# Altium footprint library connector.PcbLib: 63 footprints (part 2 of 4)
Each footprint in its own frame and in the unit in brackets; x right, y up, seen from the top. Pads: shape width x height; smd on the part's side, far side on the other; paste and mask are expansions set on the pad; w line width, h text height; cw(c..) or ccw(c..) is an arc to the next point about the centre after c.
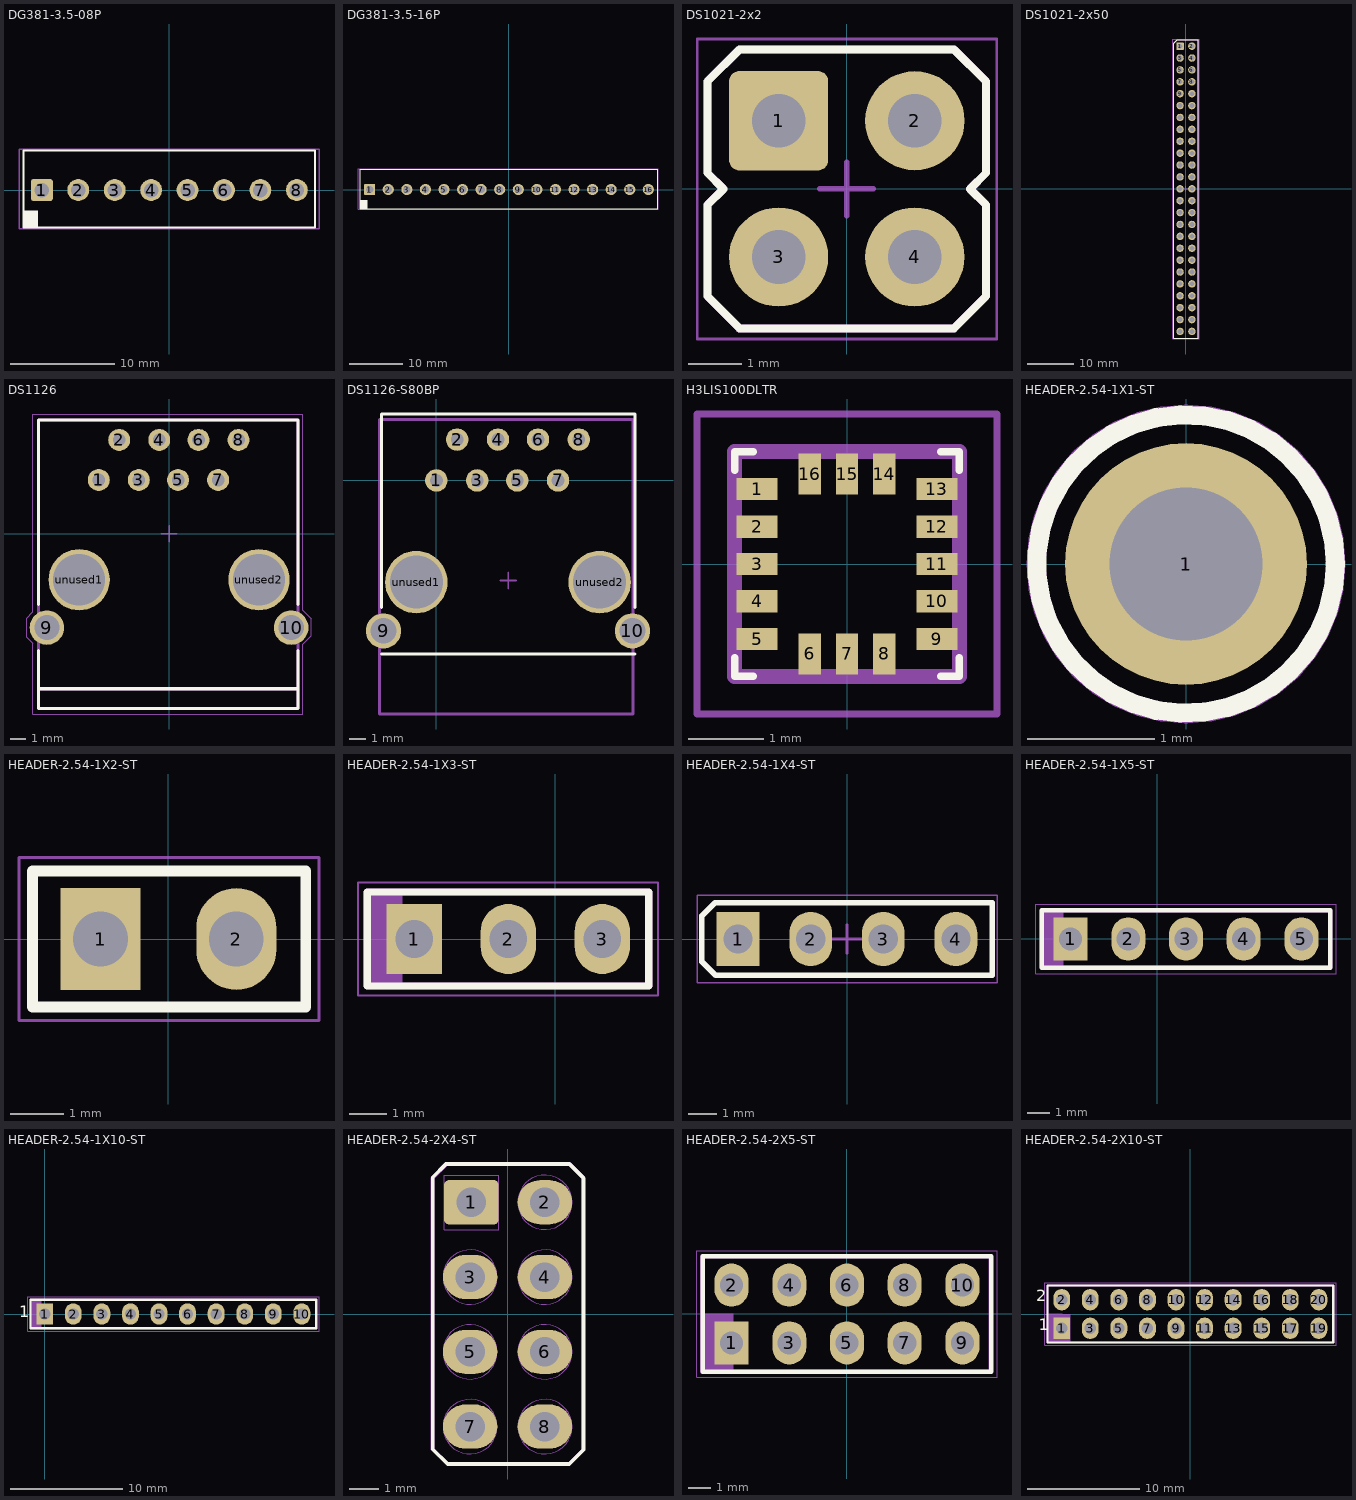
[diagram p1: the footprints below, top view; thin cyan lines are the x and y axes]

## DG381-3.5-08P [mm]
pads (8):
  rrect20% 2.1x2.1 hole 1.4: 1(-12.25,0)
  round 2.1 hole 1.4: 2(-8.75,0) 3(-5.25,0) 4(-1.75,0) 5(1.75,0) 6(5.25,0) 7(8.75,0) 8(12.25,0)
Top Overlay:
  rectangle: -13.982,-3.55 -12.625,-1.95
  lines w0.2: -14,-3.6 14,-3.6 14,3.8 -14,3.8 -14,-3.6
Top Courtyard:
  lines w0.127: -14.45,-3.7 -14.45,3.9 14.381,3.9 14.381,-3.7 -14.45,-3.7
3D body "DG381-3.5-08P-14-00AH.STEP": height 8.7, standoff -3.5, extent -14.504,-3.463 13.996,3.937

## DG381-3.5-16P [mm]
pads (16):
  rrect20% 2.1x2.1 hole 1.4: 1(-26.25,0)
  round 2.1 hole 1.4: 2(-22.75,0) 3(-19.25,0) 4(-15.75,0) 5(-12.25,0) 6(-8.75,0) 7(-5.25,0) 8(-1.75,0) 9(1.75,0) 10(5.25,0) 11(8.75,0) 12(12.25,0) 13(15.75,0) 14(19.25,0) 15(22.75,0) 16(26.25,0)
Top Overlay:
  rectangle: -27.982,-3.55 -26.625,-1.95
  lines w0.2: -28,-3.6 28,-3.6 28,3.8 -28,3.8 -28,-3.6
Top Courtyard:
  lines w0.127: -28.45,-3.7 -28.45,3.9 28.075,3.9 28.075,-3.7 -28.45,-3.7
3D body "DG381-3.5-16P-14-00AH.STEP": height 8.6, standoff -3.6, extent -28.45,-3.525 28.05,3.875

## DS1021-2x2 [mm] "PLD-4 (DS1021-2x2)"
pads (4):
  rrect20% 1.85x1.85 hole 1: 1(-1.27,1.27)
  round 1.85 hole 1: 2(1.27,1.27) 3(-1.27,-1.27) 4(1.27,-1.27)
Top Overlay:
  lines w0.15: -2.6,-2 -2,-2.6 2,-2.6 2.6,-2 2.6,-0.3 2.3,0 2.6,0.3 2.6,2 2,2.6 -2,2.6 -2.6,2 -2.6,0.3 -2.3,0 -2.6,-0.3 -2.6,-2
Top Designator:
  text ".Designator" at -2.999,3.3 h0.6
Top Assembly:
  lines w0.15: -2.6,-2 -2,-2.6 2,-2.6 2.6,-2 2.6,-0.3 2.3,0 2.6,0.3 2.6,2 2,2.6 -2,2.6 -2.6,2 -2.6,0.3 -2.3,0 -2.6,-0.3 -2.6,-2
Bottom Assembly:
  text "1" at -1.46,0.77 h1.5
Top Courtyard:
  lines w0.05: -2.79,-2.8 -2.79,2.794 2.8,2.794 2.8,-2.8 -2.79,-2.8
  lines w0.1: -0.5,0 0.5,0 ; 0,-0.5 0,0.5
3D body "PLD-4.step": height 8.7, standoff -2.9, extent -2.54,-2.54 2.54,2.54

## DS1021-2x50 [mm] "PLD-2x2 (DS1021-2x50)"
pads (50):
  rrect20% 1.6x1.6 hole 1: 1(-1.27,30.48)
  round 1.6 hole 1: 2(1.27,30.48) 3(-1.27,27.94) 4(1.27,27.94) 5(-1.27,25.4) 6(1.27,25.4) 7(-1.27,22.86) 8(1.27,22.86) 9(-1.27,20.32) 10(1.27,20.32) 11(-1.27,17.78) 12(1.27,17.78) 13(-1.27,15.24) 14(1.27,15.24) 15(-1.27,12.7) 16(1.27,12.7) 17(-1.27,10.16) 18(1.27,10.16) 19(-1.27,7.62) 20(1.27,7.62) 21(-1.27,5.08) 22(1.27,5.08) 23(-1.27,2.54) 24(1.27,2.54) 25(-1.27,0) 26(1.27,0) 27(-1.27,-2.54) 28(1.27,-2.54) 29(-1.27,-5.08) 30(1.27,-5.08) 31(-1.27,-7.62) 32(1.27,-7.62) 33(-1.27,-10.16) 34(1.27,-10.16) 35(-1.27,-12.7) 36(1.27,-12.7) 37(-1.27,-15.24) 38(1.27,-15.24) 39(-1.27,-17.78) 40(1.27,-17.78) 41(-1.27,-20.32) 42(1.27,-20.32) 43(-1.27,-22.86) 44(1.27,-22.86) 45(-1.27,-25.4) 46(1.27,-25.4) 47(-1.27,-27.94) 48(1.27,-27.94) 49(-1.27,-30.48) 50(1.27,-30.48)
Top Overlay:
  lines w0.15: -2.6,-31.89 2.6,-31.89 2.6,31.81 -1.9,31.81 -2.6,31.11 -2.6,-31.89
Top Designator:
  text ".Designator" at -2.999,32.51 h0.6
Top Assembly:
  lines w0.15: -2.6,-31.89 2.6,-31.89 2.6,31.81 -1.9,31.81 -2.6,31.11 -2.6,-31.89
Bottom Assembly:
  text "1" at -1.46,29.98 h1.5
Top Courtyard:
  lines w0.05: -2.79,-32.09 -2.79,32.004 2.8,32.004 2.8,-32.09 -2.79,-32.09
  lines w0.1: -0.5,0.01 0.5,0.01 ; 0,-0.49 0,0.51

## DS1126 [mm]
pads (12):
  round 1.4 hole 0.8 paste-2539.97: 1(-4.475,3.425) 2(-3.175,5.975) 3(-1.925,3.425) 4(-0.625,5.975) 5(0.575,3.425) 6(1.875,5.975) 7(3.125,3.425) 8(4.425,5.975)
  round 2.2 hole 1.6 paste-2539.97: 9(-7.775,-5.975) 10(7.775,-5.975)
  round 3.9 hole 3.3 paste-2539.97: unused1(-5.725,-2.925) unused2(5.725,-2.925)
Top Overlay:
  lines w0.2: -8.315,-9.863 8.204,-9.863 ; -8.315,-7.425 -8.315,-11.125 8.204,-11.125 8.207,-11.122 8.207,-7.425 ; -8.31,-4.5 -8.31,7.235 8.207,7.235 8.207,-4.5
Top Designator:
  text ".Designator" at -2.999,8.05 h0.6
Top Assembly:
  lines w0.2: -8.31,-9.863 8.2,-9.863 ; -8.31,-11.129 -8.31,-6.697 -8.31,2.678 -8.31,7.238 8.2,7.238 8.2,-11.129 -8.31,-11.129
Top Courtyard:
  lines w0.05: -9.075,-6.575 -8.675,-6.975 -8.675,-11.475 8.525,-11.475 8.525,-7.043 9.067,-6.501 9.067,-5.406 8.525,-4.864 8.525,7.625 -8.675,7.625 -8.675,3.065 -8.675,-4.975 -9.075,-5.375 -9.075,-6.575
  lines w0.1: -0.5,0 0.5,0 ; 0,-0.5 0,0.5
3D body "432028816.stp": height 12, standoff -3.99, extent -8.364,-11.145 8.214,7.3

## DS1126-S80BP [mm]
pads (12):
  round 1.4 hole 0.8 paste-25.4: 1(0,0) 2(1.3,2.55) 3(2.55,0) 4(3.85,2.55) 5(5.05,0) 6(6.35,2.55) 7(7.6,0) 8(8.9,2.55)
  round 2.2 hole 1.6 paste-25.4: 9(-3.3,-9.4) 10(12.25,-9.4)
  round 3.9 hole 3.3 paste-25.4: unused1(-1.25,-6.35) unused2(10.2,-6.35)
Top Overlay:
  lines w0.2: -3.425,-10.85 8.7,-10.85 ; -3.425,-7.925 -3.425,4.15 12.4,4.15 12.4,-7.925 ; 12.4,-10.85 8.7,-10.85 ; 8.7,-10.85 8.7,-10.85
Top Designator:
  text ".Designator" at 0.751,4.8 h0.6
Top Assembly:
  lines w0.2: -3.544,-14.589 12.281,-14.589 12.281,3.811 -3.544,3.811 -3.544,-0.876 -3.544,-10.251 -3.544,-14.589
Top Courtyard:
  lines w0.1: 4,-6.25 5,-6.25 ; 4.5,-6.75 4.5,-5.75
3D body "432028816.stp": height 12, standoff -3.99, extent -3.889,-14.57 12.689,3.875

## H3LIS100DLTR [mm]
pads (16):
  rect 0.55x0.3 smd: 1(-1.2,1) 2(-1.2,0.5) 3(-1.2,0) 4(-1.2,-0.5) 5(-1.2,-1) 9(1.2,-1) 10(1.2,-0.5) 11(1.2,0) 12(1.2,0.5) 13(1.2,1)
  rect 0.3x0.55 smd: 6(-0.5,-1.2) 7(0,-1.2) 8(0.5,-1.2) 14(0.5,1.2) 15(0,1.2) 16(-0.5,1.2)
Top Overlay:
  lines w0.1: -1.5,-1.25 -1.5,-1.5 -1.25,-1.5 ; -1.5,1.25 -1.5,1.5 -1.25,1.5 ; 1.25,-1.5 1.5,-1.5 1.5,-1.25 ; 1.25,1.5 1.5,1.5 1.5,1.25
Top Assembly:
  lines w0.2: -1.5,-1.5 1.5,-1.5 1.5,1.5 -1.5,1.5 -1.5,-1.5
Top Courtyard:
  lines w0.1: -2,-2 2,-2 2,2 -2,2 -2,-2
3D body "LIS3DH.stp": height 1, standoff 0, extent -1.5,-1.5 1.5,1.5

## HEADER-2.54-1X1-ST [mm]
pads (1):
  round 1.9 hole 1.2: 1(0,0)
Top Overlay:
  circle w0.15: c0,0 r1.174
Bottom Dimensions:
  circle w0.15: c0,0 r1.179
  text ".Designator" at -1.8,1.475 h1
Top Courtyard:
  circle w0.15: c0,0 r1.177

## HEADER-2.54-1X2-ST [mm]
pads (2):
  rect 1.5x1.9 hole 1.02: 1(-1.27,0)
  oval 1.5x1.9 hole 1.02: 2(1.27,0)
Top Overlay:
  lines w0.2: -2.54,-1.27 2.565,-1.27 2.565,1.27 -2.54,1.27 -2.54,-1.27
Top Assembly:
  lines w0.1: -2.54,-1.27 -2.54,1.27 2.565,1.27 2.565,-1.27 -2.54,-1.27
Top Courtyard:
  lines w0.05: -2.794,-1.524 2.815,-1.524 2.815,1.524 -2.794,1.524 -2.794,-1.524
3D body "PLS-2.step": height 8.7, standoff -2.9, extent -2.54,-1.27 2.54,1.27

## HEADER-2.54-1X3-ST [mm]
pads (3):
  rect 1.5x1.9 hole 1.02: 1(-3.81,0)
  oval 1.5x1.9 hole 1.02: 2(-1.27,0) 3(1.27,0)
Top Overlay:
  lines w0.2: -5.08,-1.27 2.525,-1.27 2.525,1.27 -5.08,1.27 -5.08,-1.27
Bottom Dimensions:
  rectangle: -5.08,-1.275 -4.125,1.27
  lines w0.2: -5.08,-1.27 2.525,-1.27 2.525,1.27 -5.08,1.27 -5.08,-1.27
  text ".Designator" at -2.35,1.8 h1
Top Assembly:
  lines w0.1: -5.08,-1.27 2.525,-1.27 2.525,1.27 -5.08,1.27 -5.08,-1.27
Top Courtyard:
  lines w0.05: -5.334,-1.524 2.775,-1.524 2.775,1.524 -5.334,1.524 -5.334,-1.524
3D body "PLS-3.step": height 8.6, standoff -3, extent -5.08,-1.27 2.54,1.27

## HEADER-2.54-1X4-ST [mm]
pads (4):
  rect 1.5x1.9 hole 1.02: 1(-3.81,0)
  oval 1.5x1.9 hole 1.02: 2(-1.27,0) 3(1.27,0) 4(3.81,0)
Top Overlay:
  lines w0.2: -5.08,-0.795 -4.605,-1.27 5.08,-1.27 5.08,1.27 -4.622,1.27 -5.08,0.812 -5.08,-0.795
Top Designator:
  text ".Designator" at -3.124,1.775 h0.6
Top Assembly:
  lines w0.1: -5.08,-0.795 -4.605,-1.27 5.08,-1.27 5.08,1.27 -4.622,1.27 -5.08,0.812 -5.08,-0.795
Top Courtyard:
  lines w0.05: -5.25,-1.524 5.25,-1.524 5.25,1.524 -5.25,1.524 -5.25,-1.524
  lines w0.1: -0.5,0 0.5,0 ; 0,-0.5 0,0.5
3D body "m20-9770442_asm.step": height 8.35, standoff -3.13, extent -5.08,-1.27 5.08,1.27

## HEADER-2.54-1X5-ST [mm]
pads (5):
  rect 1.5x1.9 hole 1.02: 1(-3.81,0)
  oval 1.5x1.9 hole 1.02: 2(-1.27,0) 3(1.27,0) 4(3.81,0) 5(6.35,0)
Top Overlay:
  lines w0.2: -5.08,-1.27 7.62,-1.27 7.62,1.27 -5.08,1.27 -5.08,-1.27
Bottom Dimensions:
  rectangle: -5.08,-1.275 -4.125,1.27
  lines w0.2: -5.08,-1.27 -5.08,1.27 7.62,1.27 7.62,-1.27 -5.08,-1.27
  text ".Designator" at -2.35,1.8 h1
Top Assembly:
  lines w0.1: -5.08,-1.27 -5.08,1.27 7.62,1.27 7.62,-1.27 -5.08,-1.27
Top Courtyard:
  lines w0.05: -5.334,-1.524 7.874,-1.524 7.874,1.524 -5.334,1.524 -5.334,-1.524

## HEADER-2.54-1X10-ST [mm]
pads (10):
  rect 1.5x1.9 hole 1: 1(0,0)
  oval 1.5x1.9 hole 1: 2(2.54,0) 3(5.08,0) 4(7.62,0) 5(10.16,0) 6(12.7,0) 7(15.24,0) 8(17.78,0) 9(20.32,0) 10(22.86,0)
Top Overlay:
  lines w0.2: -1.27,-1.27 -1.27,1.27 24.13,1.27 24.13,-1.27 -1.27,-1.27
  text "1" at -2.286,-0.635 h1.8
Bottom Dimensions:
  rectangle: -1.255,-1.275 -0.3,1.27
  lines w0.2: -1.274,-1.265 -1.274,1.275 24.126,1.275 24.126,-1.265 -1.274,-1.265
  text ".Designator" at 0.75,1.725 h1
Top Assembly:
  lines w0.1: -1.27,-1.27 -1.27,1.27 24.13,1.27 24.13,-1.27 -1.27,-1.27
Top Courtyard:
  lines w0.05: -1.524,-1.524 -1.524,1.524 24.384,1.524 24.384,-1.524 -1.524,-1.524
3D body "m20-9771042_asm.step": height 8.35, standoff -3.13, extent -1.27,-1.27 24.13,1.27

## HEADER-2.54-2X4-ST [mm]
height 5
pads (8):
  rrect20% 1.85x1.5 hole 1: 1(-1.23,3.81)
  oval 1.85x1.5 hole 1: 2(1.27,3.81) 3(-1.27,1.27) 4(1.27,1.27) 5(-1.27,-1.27) 6(1.27,-1.27) 7(-1.27,-3.81) 8(1.27,-3.81)
Top Overlay:
  lines w0.12: -2.54,-4.575 -2.54,4.66 -2.09,5.11 2.103,5.11 2.58,4.633 2.58,4.46 2.58,3.16 2.58,-4.595 2.095,-5.08 -2.035,-5.08 -2.54,-4.575
Bottom Assembly:
  circle w0.01: c-1.27,-3.81 r0.925
  circle w0.01: c-1.27,-1.27 r0.925
  circle w0.01: c-1.27,1.27 r0.925
  circle w0.01: c1.27,-3.81 r0.925
  circle w0.01: c1.27,-1.27 r0.925
  circle w0.01: c1.27,1.27 r0.925
  circle w0.01: c1.27,3.81 r0.925
  lines w0.01: -2.155,2.885 -0.305,2.885 -0.305,4.735 -2.155,4.735 -2.155,2.885
  text "1" at -1.42,3.31 h1.5
Top Courtyard:
  lines w0.12: -2.549,-4.576 -2.05,-5.075 2.1,-5.075 2.575,-4.6 2.575,4.65 2.115,5.11 -2.065,5.11 -2.549,4.626 -2.549,-4.576
3D body "PLD-8.step": height 8.7, standoff -2.9, extent -2.54,-5.055 2.54,5.105

## HEADER-2.54-2X5-ST [mm]
pads (10):
  rect 1.5x1.9 hole 1.02: 1(-5.08,-1.27)
  oval 1.5x1.9 hole 1.02: 2(-5.08,1.27) 3(-2.54,-1.27) 4(-2.54,1.27) 5(0,-1.27) 6(0,1.27) 7(2.54,-1.27) 8(2.54,1.27) 9(5.08,-1.27) 10(5.08,1.27)
Top Overlay:
  lines w0.2: -6.35,-2.54 -6.35,2.54 6.35,2.54 6.35,-2.54 -6.35,-2.54
Top Designator:
  text ".Designator" at -2.05,3.15 h1
Top Assembly:
  rectangle: -6.35,-2.5 -5,0.025
  lines w0.1: -6.35,-2.54 -6.35,2.54 6.35,2.54 6.35,-2.54 -6.35,-2.54
  lines w0.2: -6.375,-2.54 6.325,-2.54 6.325,2.54 -6.375,2.54 -6.375,-2.54
Top Courtyard:
  lines w0.05: -6.604,-2.794 -6.604,2.794 6.604,2.794 6.604,-2.794 -6.604,-2.794
3D body "Harwin_M20-9760542.step": height 8.35, standoff -3.13, extent -6.35,-2.54 6.35,2.54

## HEADER-2.54-2X10-ST [mm]
pads (20):
  rect 1.5x1.9 hole 1.02: 1(-11.43,-1.27)
  oval 1.5x1.9 hole 1.02: 2(-11.43,1.27) 3(-8.89,-1.27) 4(-8.89,1.27) 5(-6.35,-1.27) 6(-6.35,1.27) 7(-3.81,-1.27) 8(-3.81,1.27) 9(-1.27,-1.27) 10(-1.27,1.27) 11(1.27,-1.27) 12(1.27,1.27) 13(3.81,-1.27) 14(3.81,1.27) 15(6.35,-1.27) 16(6.35,1.27) 17(8.89,-1.27) 18(8.89,1.27) 19(11.43,-1.27) 20(11.43,1.27)
Top Overlay:
  lines w0.2: -12.7,-2.54 -12.7,2.54 12.7,2.54 12.7,-2.54 -12.7,-2.54
  text "1" at -13.462,-1.778 h1.8
  text "2" at -13.716,0.762 h1.8
Bottom Dimensions:
  text ".Designator" at -1.5,3 h1
Top Assembly:
  rectangle: -12.7,-2.5 -11.35,0.025
  rectangle: -12.7,-2.5 -10.634,-0.01
  lines w0.1: -12.7,-2.54 -12.7,2.54 12.7,2.54 12.7,-2.54 -12.7,-2.54
  lines w0.2: -12.7,-2.54 12.7,-2.54 12.7,2.54 -12.7,2.54 -12.7,-2.54
Top Courtyard:
  lines w0.05: -12.954,-2.794 -12.954,2.794 12.954,2.794 12.954,-2.794 -12.954,-2.794
3D body "Harwin_M20-9761042.step": height 8.34, standoff -3.14, extent -12.7,-2.54 12.7,2.54